# EAGLE library part RFID_RC522 (library Richard_Boards)
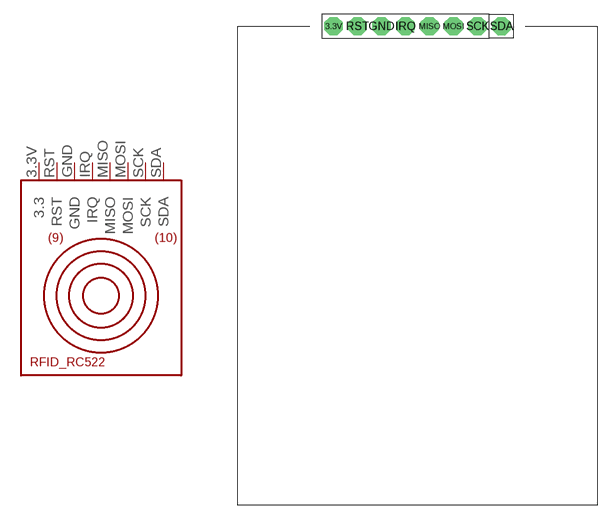
[diagram p10: symbol with the pads of RFID_RC522; footprint RFID_RC522]

Designator prefix -

## RFID_RC522  [RFID_RC522]
3.3V  3.3  pas
GND  GND  pas
IRQ  IRQ  pas
MISO  MISO  pas
MOSI  MOSI  pas
RST  RST  pas
SCK  SCK  pas
SDA  SDA  pas

## Footprint RFID_RC522 (pad centres in mm)
PIN HEADER
drill 1.016 pad 1.93 octagon: 3.3V -8.89,0; GND -3.81,0; IRQ -1.27,0; MISO 1.27,0; MOSI 3.81,0; RST -6.35,0; SCK 6.35,0; SDA 8.89,0